# Altium footprint library VLMS1500-GS08.PcbLib: 3 footprints
Each footprint in its own frame and in the unit in brackets; x right, y up, seen from the top. Pads: shape width x height; smd on the part's side, far side on the other; paste and mask are expansions set on the pad; w line width, h text height; cw(c..) or ccw(c..) is an arc to the next point about the centre after c.
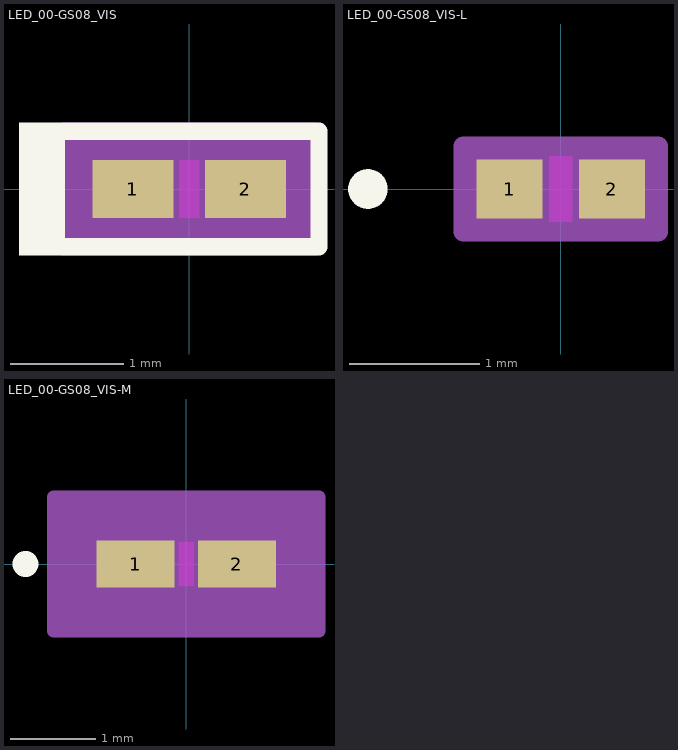
[diagram p0: the footprints below, top view; thin cyan lines are the x and y axes]

## LED_00-GS08_VIS [mil]
pads (2):
  rect 28x20 smd paste+0 mask+0: 1(-19.5,0) 2(19.5,0)
Top Layer keep-out:
  region: -3.5,-8 -3.5,8 3.5,8 3.5,-8
Top Overlay:
  rectangle: -59,-23 -43,23
  lines w6: -50,-20 -50,20 45,20 45,-20 -50,-20
Keep-Out Layer:
  region: -3.5,-10 -3.5,10 3.5,10 3.5,-10
Mechanical 13:
  circle w0: c-14.5,0 r3
  lines w1: -19.5,-10 -19.5,10 ; -19.5,-10 19.5,-10 ; -19.5,-10 -5.5,-10 -5.5,10 -19.5,10 ; -19.5,-10 -19.5,10 ; -19.5,10 19.5,10 ; 19.5,-10 19.5,10 ; 19.5,-10 19.5,10 ; 19.5,-10 5.5,-10 5.5,10 19.5,10
Mechanical 15:
  region: 43.5,-20 -43.5,-20 -43.5,20 43.5,20
  lines w6: -43.5,-20 43.5,-20 43.5,20 -43.5,20 -43.5,-20
3D body "LED_00-GS08_VIS.step": height 14.02, standoff 0, extent -19.49,-10 19.49,10

## LED_00-GS08_VIS-L [mil]
pads (2):
  rect 20x18 smd paste+0 mask+0: 1(-15.5,0) 2(15.5,0)
Top Layer keep-out:
  region: -3.5,-8 -3.5,8 3.5,8 3.5,-8
Top Overlay:
  circle w6: c-58.5,0 r3
Keep-Out Layer:
  region: -3.5,-10 -3.5,10 3.5,10 3.5,-10
Mechanical 13:
  circle w0: c-10.5,0 r3
  lines w1: -19.5,-10 -19.5,10 ; -19.5,-10 19.5,-10 ; -19.5,-10 -5.5,-10 -5.5,10 -19.5,10 ; -19.5,-10 -19.5,10 ; -19.5,10 19.5,10 ; 19.5,-10 19.5,10 ; 19.5,-10 19.5,10 ; 19.5,-10 5.5,-10 5.5,10 19.5,10
Mechanical 15:
  region: 29.5,-13 -29.5,-13 -29.5,13 29.5,13
  lines w6: -29.5,-13 29.5,-13 29.5,13 -29.5,13 -29.5,-13
3D body "LED_00-GS08_VIS.step": height 14.02, standoff 0, extent -19.49,-10 19.49,10

## LED_00-GS08_VIS-M [mil]
pads (2):
  rect 36x22 smd paste+0 mask+0: 1(-23.5,0) 2(23.5,0)
Top Layer keep-out:
  region: -3.5,-8 -3.5,8 3.5,8 3.5,-8
Top Overlay:
  circle w6: c-74.5,0 r3
Keep-Out Layer:
  region: -3.5,-10 -3.5,10 3.5,10 3.5,-10
Mechanical 13:
  circle w0: c-18.5,0 r3
  lines w1: -19.5,-10 -19.5,10 ; -19.5,-10 -5.5,-10 -5.5,10 -19.5,10 ; -19.5,-10 19.5,-10 ; -19.5,-10 -19.5,10 ; -19.5,10 19.5,10 ; 19.5,-10 5.5,-10 5.5,10 19.5,10 ; 19.5,-10 19.5,10 ; 19.5,-10 19.5,10
Mechanical 15:
  region: 61.5,-31 -61.5,-31 -61.5,31 61.5,31
  lines w6: -61.5,-31 -61.5,31 61.5,31 61.5,-31 -61.5,-31
3D body "LED_00-GS08_VIS.step": height 14.02, standoff 0, extent -19.49,-10 19.49,10